# Altium schematic symbol library BTS462T.Schlib: 1 symbol
Pins are listed as number, name and electrical type; pins without a type are passive.

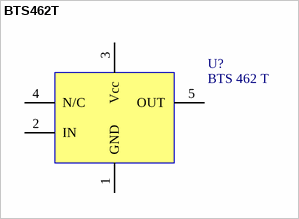
[diagram p0: symbol BTS462T]

## BTS462T
designator U?, comment BTS 462 T
Smart Power High-Side Switch; Part Field 1: IC, Smart Power High-Side Switch; Part Field 2: 3.5A, 5-34V, 100mOhm; Part Field 3: TO-252-5; Part Field 4: Infineon; Part Field 5: BTS 462 T; Cost: $2.84; ComponentLink3URL: http://search.digikey.com/scripts/DkSearch/dksus.dll?Detail?name=BTS462TINCT-ND; ComponentLink2Description: Datasheet; ComponentLink3Description: Supplier Link; ComponentLink1Description: Manufacturer Link; ComponentLink1URL: http://www.infineon.com/; ComponentLink2URL: http://www.infineon.com/dgdl/BTS462T_20040127.pdf?folderId=db3a304412b407950112b42982064117&fileId=db3a304412b407950112b42982724118
footprint TO-252-5
pins: 1 GND (power), 2 IN (power), 3 Vcc (power), 4 N/C (power), 5 OUT (power)